# EAGLE library part 10PIN (library mb3_headers)
0.1" (2.54mm) spacing Headers are used for connecting two boards together, but may fit some .1" (2.54mm) spaced header/connector packages. Pins: https://www.taydaelectronics.com/connectors-sockets/pin-headers/40-pin-2-54-mm-single-row-pin-header-strip.html?
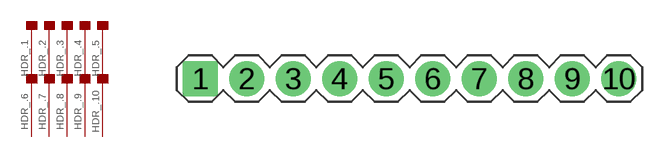
[diagram p2: symbol with the pads of 10-PIN; footprint 10-PIN]

Designator prefix HDR_; gates .1=PIN .2=PIN .3=PIN .4=PIN .5=PIN .6=PIN .7=PIN .8=PIN .9=PIN .10=PIN

## 10PIN  [10-PIN]
1  .1:P
2  .2:P
3  .3:P
4  .4:P
5  .5:P
6  .6:P
7  .7:P
8  .8:P
9  .9:P
10  .10:P

## Footprint 10-PIN (pad centres in mm)
drill 1.1 pad 1.93 square: 1 -11.43,0
drill 1.1 pad 1.93: 2 -8.89,0; 3 -6.35,0; 4 -3.81,0; 5 -1.27,0; 6 1.27,0; 7 3.81,0; 8 6.35,0; 9 8.89,0; 10 11.43,0